# EAGLE library part F1042 (library module-footprints)
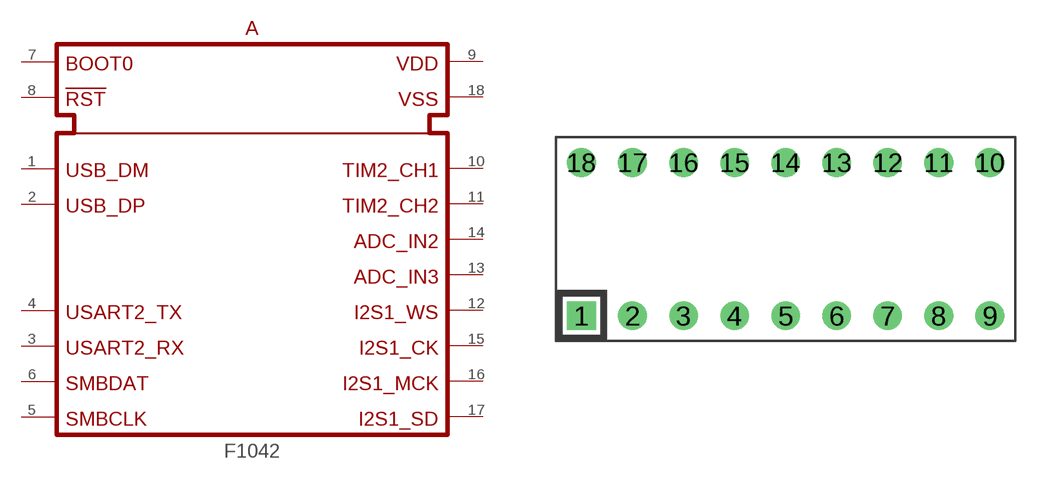
[diagram p5: symbol with the pads of F-DIP18; footprint F-DIP18]

Designator prefix A

## F1042  [F-DIP18]
1  USB_DM  in
2  USB_DP  in
3  USART2_RX  in
4  USART2_TX  in
5  SMBCLK  in
6  SBMDAT  in
7  BOOT0  in
8  !RST  in
9  VDD  in
10  TIM2_CH1  in
11  TIM2_CH2  in
12  I2S1_WS  in
13  ADC_IN3  in
14  ADC_IN2  in
15  I2S1_CK  in
16  I2S1_MCK  in
17  I2S1_SD  in
18  VSS  in

## Footprint F-DIP18 (pad centres in mm)
drill 0.914 square: 1 -10.16,-3.81
drill 0.914: 2 -7.62,-3.81; 3 -5.08,-3.81; 4 -2.54,-3.81; 5 0,-3.81; 6 2.54,-3.81; 7 5.08,-3.81; 8 7.62,-3.81; 9 10.16,-3.81; 10 10.16,3.81; 11 7.62,3.81; 12 5.08,3.81; 13 2.54,3.81; 14 0,3.81; 15 -2.54,3.81; 16 -5.08,3.81; 17 -7.62,3.81; 18 -10.16,3.81